# Altium footprint library 35318-0420.PcbLib: 1 footprints
Each footprint in its own frame and in the unit in brackets; x right, y up, seen from the top. Pads: shape width x height; smd on the part's side, far side on the other; paste and mask are expansions set on the pad; w line width, h text height; cw(c..) or ccw(c..) is an arc to the next point about the centre after c.
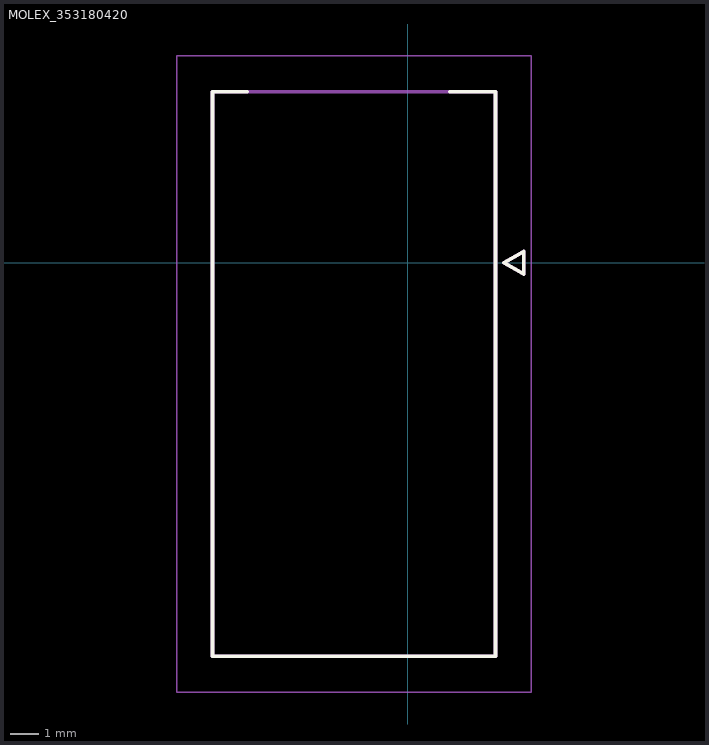
[diagram p0: the footprint, top view; thin cyan lines are the x and y axes]

## MOLEX_353180420 [mm]
Top Overlay:
  lines w0.127: -5.676,6.04 -6.9,6.04 -6.9,-13.9 3.1,-13.9 3.1,6.04 1.476,6.04 ; 3.397,0 4.097,0.4 4.097,-0.4 3.397,0
Mechanical 13:
  lines w0.127: -6.9,-13.9 -6.9,6.04 3.1,6.04 3.1,-13.9 -6.9,-13.9 ; 3.397,0 4.097,0.4 4.097,-0.4 3.397,0
Mechanical 15:
  lines w0.05: -8.17,-15.17 -8.17,7.31 4.37,7.31 4.37,-15.17 -8.17,-15.17